# Altium integrated library Lattice FPGA XP.IntLib: 280 symbols (part 30 of 55)
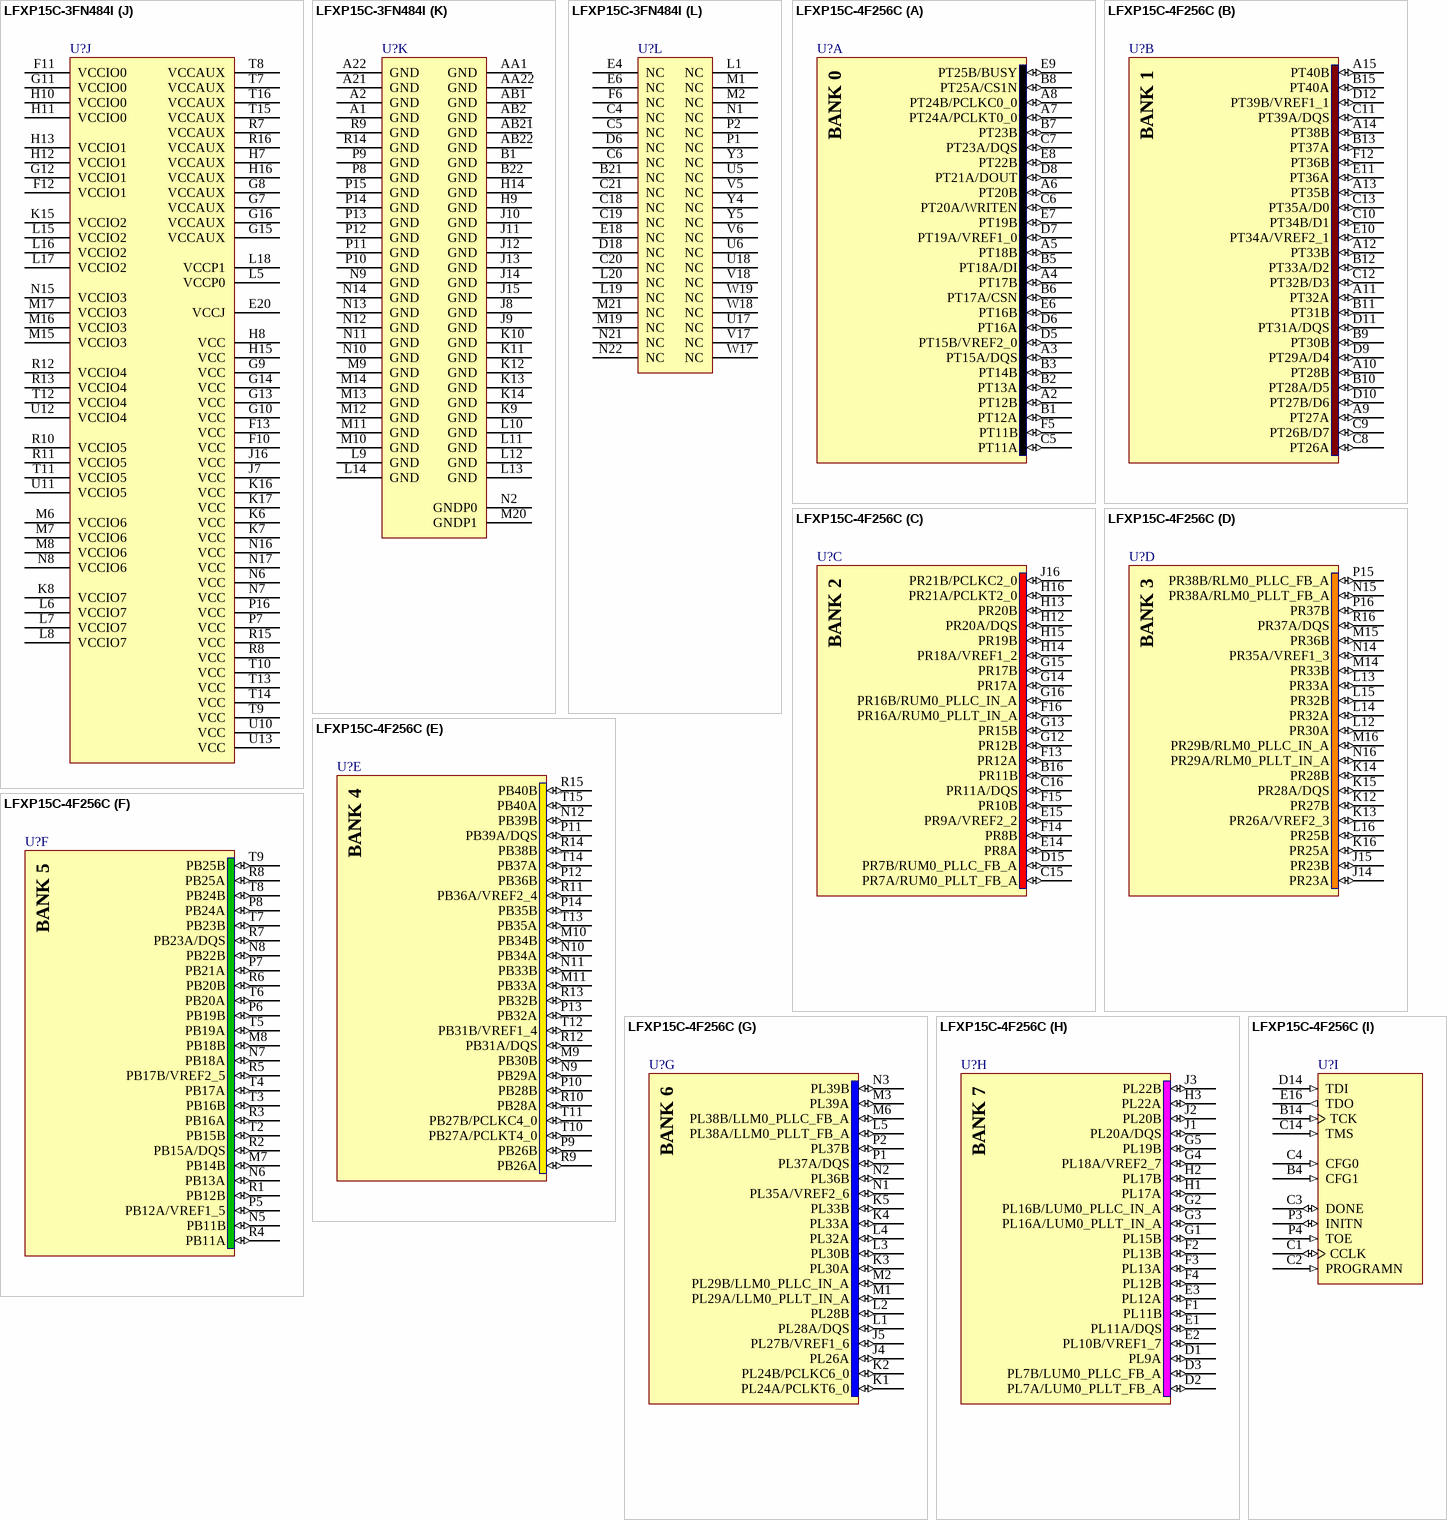
[diagram p367: symbols LFXP15C-3FN484I to LFXP15C-4F256C]

## LFXP15C-3FN484I
designator U?
XP 1.8/2.5/3.3V FPGA, 300 I/Os, 15K LUTs, 484-Pin fpBGA, Speed Grade 3, Industrial Grade, Pb-Free; DatasheetVersion: ver05.1, Nov-2007; PackageVersion: ver02.8, Jul-2011; PackageReference: fpBGA484; PackageDescription: 484-Ball Fine Pitch Ball Grid Array (fpBGA484); Code_IPC: BGA100P22X22-484; ComponentLink1Description: Manufacturer URL; ComponentLink1URL: http://www.latticesemi.com/; ComponentLink2Description: Datasheet; ComponentLink2URL: http://www.latticesemi.com/lit/docs/datasheets/fpga/DS1001.pdf; ComponentLink3Description: Package Specification; ComponentLink3URL: http://www.latticesemi.com/lit/docs/package/pkg.pdf
footprint fpBGA484 (BGA, 484-Leads, Body 23x23mm, Pitch 1mm)
part A pins: A3 PT8A (io), A4 PT10A (io), A5 PT12A (io), A6 PT15A/DQS (io), A7 PT17A/CSN (io), A8 PT20A/WRITEN (io), A9 PT21A/DOUT (io), A10 PT25A/CS1N (io), A11 PT25B/BUSY (io), B2 PT6B (io), B3 PT8B (io), B4 PT10B (io), B5 PT12B (io), B6 PT15B/VREF2_0 (io), B7 PT17B (io), B8 PT20B (io), B9 PT22B (io), B10 PT18A/DI (io), B11 PT23B (io), C2 PT5A (io), C3 PT4B (io), C7 PT7A/DQS (io), C8 PT11B (io), C9 PT16B (io), C10 PT18B (io), C11 PT23A/DQS (io), D3 PT4A (io), D7 PT7B (io), D8 PT11A (io), D9 PT16A (io), D10 PT19A/VREF1_0 (io), D11 PT24B/PCLKC0_0 (io), E7 PT3A (io), E8 PT9A (io), E9 PT13A (io), E10 PT19B (io), E11 PT24A/PCLKT0_0 (io), F7 PT3B (io), F8 PT9B (io), F9 PT14B (io)
part B pins: A12 PT26A (io), A13 PT26B/D7 (io), A14 PT30B (io), A15 PT33B (io), A16 PT34B/D1 (io), A17 PT38B (io), A18 PT40B (io), A19 PT42B (io), A20 PT43B (io), B12 PT28A/D5 (io), B13 PT31A/DQS (io), B14 PT29A/D4 (io), B15 PT33A/D2 (io), B16 PT34A/VREF2_1 (io), B17 PT37A (io), B18 PT40A (io), B19 PT42A (io), B20 PT43A (io), C12 PT28B (io), C13 PT31B (io), C14 PT35A/D0 (io), C15 PT41B (io), C16 PT44B (io), C17 PT47B (io), D12 PT27B/D6 (io), D13 PT32A (io), D14 PT35B (io), D15 PT41A (io), D16 PT44A (io), D17 PT47A/DQS (io), E12 PT27A (io), E13 PT32B/D3 (io), E14 PT36B (io), E15 PT39A/DQS (io), E16 PT48A (io), E17 PT48B (io), F14 PT36A (io), F15 PT39B/VREF1_1 (io), F16 PT45A (io), F17 PT46B (io)
part C pins: C22 PR2B (io), D21 PR6B (io), D22 PR6A (io), E21 PR7B/RUM0_PLLC_FB_A (io), E22 PR7A/RUM0_PLLT_FB_A (io), F18 PR3B (io), F19 PR3A (io), F21 PR11B (io), F22 PR11A/DQS (io), G17 PR4B (io), G18 PR4A (io), G19 PR5A (io), G20 PR5B (io), G21 PR12B (io), G22 PR12A (io), H17 PR8B (io), H18 PR8A (io), H19 PR9A/VREF2_2 (io), H20 PR10B (io), H21 PR16B/RUM0_PLLC_IN_A (io), H22 PR16A/RUM0_PLLT_IN_A (io), J17 PR13B (io), J18 PR13A (io), J19 PR15A (io), J20 PR15B (io), J21 PR20B (io), J22 PR20A/DQS (io), K18 PR19B (io), K19 PR18A/VREF1_2 (io), K20 PR17A (io), K21 PR17B (io), K22 PR21A/PCLKT2_0 (io), L21 PR21B/PCLKC2_0 (io), L22 PR22A (io), M22 PR22B (io)
part D pins: M18 PR24A (io), N18 PR24B (io), N19 PR25B (io), N20 PR25A (io), P17 PR34B (io), P18 PR34A (io), P19 PR29B/RLM0_PLLC_IN_A (io), P20 PR29A/RLM0_PLLT_IN_A (io), P21 PR23A (io), P22 PR23B (io), R17 PR38A/RLM0_PLLT_FB_A (io), R18 PR38B/RLM0_PLLC_FB_A (io), R19 PR33B (io), R20 PR33A (io), R21 PR26A/VREF2_3 (io), R22 PR27B (io), T17 PR40B (io), T18 PR40A (io), T19 PR39B (io), T20 PR39A (io), T21 PR28A/DQS (io), T22 PR28B (io), U19 PR42A (io), U20 PR42B (io), U21 PR30A (io), U22 PR30B (io), V19 PR43A (io), V20 PR41B (io), V21 PR32A (io), V22 PR32B (io), W20 PR41A (io), W21 PR35A/VREF1_3 (io), W22 PR36B (io), Y21 PR37A/DQS (io), Y22 PR37B (io)
part E pins: AA12 PB26B (io), AA13 PB29A (io), AA14 PB33A (io), AA15 PB33B (io), AA16 PB41A (io), AA17 PB41B (io), AA18 PB42A (io), AA19 PB42B (io), AA20 PB44A (io), AA21 PB44B (io), AB13 PB28A (io), AB14 PB28B (io), AB15 PB31A/DQS (io), AB16 PB31B/VREF1_4 (io), AB17 PB34A (io), AB18 PB34B (io), AB19 PB37A (io), AB20 PB38B (io), U14 PB36A/VREF2_4 (io), U15 PB39B (io), U16 PB48B (io), V12 PB27B/PCLKC4_0 (io), V13 PB32A (io), V14 PB36B (io), V15 PB39A/DQS (io), V16 PB48A (io), W12 PB27A/PCLKT4_0 (io), W13 PB32B (io), W14 PB35A (io), W15 PB40B (io), W16 PB43B (io), Y12 PB26A (io), Y13 PB30B (io), Y14 PB35B (io), Y15 PB40A (io), Y16 PB43A (io), Y17 PB45A (io), Y18 PB46B (io), Y19 PB47A/DQS (io), Y20 PB47B (io)
part F pins: AA2 PB4A (io), AA3 PB4B (io), AA4 PB8A (io), AA5 PB8B (io), AA6 PB10A (io), AA7 PB10B (io), AA8 PB17A (io), AA9 PB17B/VREF2_5 (io), AA10 PB22B (io), AA11 PB24B (io), AB3 PB9A (io), AB4 PB9B (io), AB5 PB16A (io), AB6 PB16B (io), AB7 PB19A (io), AB8 PB19B (io), AB9 PB20A (io), AB10 PB20B (io), AB11 PB25A (io), AB12 PB25B (io), U7 PB6B (io), U8 PB11A (io), U9 PB14B (io), V7 PB5A (io), V8 PB11B (io), V9 PB13A (io), V10 PB18B (io), V11 PB23B (io), W6 PB3A (io), W7 PB7B (io), W8 PB12B (io), W9 PB15B (io), W10 PB18A (io), W11 PB23A/DQS (io), Y6 PB3B (io), Y7 PB7A/DQS (io), Y8 PB12A/VREF1_5 (io), Y9 PB15A/DQS (io), Y10 PB21A (io), Y11 PB24A (io)
part G pins: M3 PL23B (io), M4 PL23A (io), M5 PL26A (io), N3 PL25A (io), N4 PL25B (io), N5 PL27B/VREF1_6 (io), P3 PL30A (io), P4 PL30B (io), P5 PL32B (io), P6 PL32A (io), R1 PL24B/PCLKC6_0 (io), R2 PL24A/PCLKT6_0 (io), R3 PL35A/VREF2_6 (io), R4 PL36B (io), R5 PL37B (io), R6 PL37A/DQS (io), T1 PL28B (io), T2 PL28A/DQS (io), T3 PL39A (io), T4 PL39B (io), T5 PL41B (io), T6 PL41A (io), U1 PL29B/LLM0_PLLC_IN_A (io), U2 PL29A/LLM0_PLLT_IN_A (io), U3 PL42A (io), U4 PL42B (io), V1 PL33B (io), V2 PL33A (io), V3 PL40B (io), V4 PL43A (io), W1 PL34B (io), W2 PL34A (io), W3 PL40A (io), Y1 PL38B/LLM0_PLLC_FB_A (io), Y2 PL38A/LLM0_PLLT_FB_A (io)
part H pins: C1 PL2B (io), D1 PL6A (io), D2 PL6B (io), E1 PL7A/LUM0_PLLT_FB_A (io), E2 PL7B/LUM0_PLLC_FB_A (io), F1 PL11A/DQS (io), F2 PL11B (io), F3 PL4B (io), F4 PL4A (io), G1 PL13A (io), G2 PL13B (io), G3 PL5B (io), G4 PL5A (io), G5 PL3A (io), G6 PL3B (io), H1 PL16A/LUM0_PLLT_IN_A (io), H2 PL16B/LUM0_PLLC_IN_A (io), H3 PL10B/VREF1_7 (io), H4 PL9A (io), H5 PL8A (io), H6 PL8B (io), J1 PL17A (io), J2 PL17B (io), J3 PL15B (io), J4 PL15A (io), J5 PL12A (io), J6 PL12B (io), K1 PL21A (io), K2 PL19B (io), K3 PL18A/VREF2_7 (io), K4 PL20A/DQS (io), K5 PL20B (io), L2 PL21B (io), L3 PL22B (io), L4 PL22A (io)
part I pins: D4 CFG1 (in), D5 DONE (io), D19 TDI (in), D20 TCK (in), E3 CCLK (io), E5 CFG0 (in), E19 TMS (in), F5 PROGRAMN (in), F20 TDO (out), W4 SLEEPN (in), W5 INITN (io)
part J pins: E20 VCCJ (power), F10 VCC (power), F11 VCCIO0 (power), F12 VCCIO1 (power), F13 VCC (power), G7 VCCAUX (power), G8 VCCAUX (power), G9 VCC (power), G10 VCC (power), G11 VCCIO0 (power), G12 VCCIO1 (power), G13 VCC (power), G14 VCC (power), G15 VCCAUX (power), G16 VCCAUX (power), H7 VCCAUX (power), H8 VCC (power), H10 VCCIO0 (power), H11 VCCIO0 (power), H12 VCCIO1 (power), H13 VCCIO1 (power), H15 VCC (power), H16 VCCAUX (power), J7 VCC (power), J16 VCC (power), K6 VCC (power), K7 VCC (power), K8 VCCIO7 (power), K15 VCCIO2 (power), K16 VCC (power), K17 VCC (power), L5 VCCP0 (power), L6 VCCIO7 (power), L7 VCCIO7 (power), L8 VCCIO7 (power), L15 VCCIO2 (power), L16 VCCIO2 (power), L17 VCCIO2 (power), L18 VCCP1 (power), M6 VCCIO6 (power), M7 VCCIO6 (power), M8 VCCIO6 (power), M15 VCCIO3 (power), M16 VCCIO3 (power), M17 VCCIO3 (power), N6 VCC (power), N7 VCC (power), N8 VCCIO6 (power), N15 VCCIO3 (power), N16 VCC (power), N17 VCC (power), P7 VCC (power), P16 VCC (power), R7 VCCAUX (power), R8 VCC (power), R10 VCCIO5 (power), R11 VCCIO5 (power), R12 VCCIO4 (power), R13 VCCIO4 (power), R15 VCC (power), R16 VCCAUX (power), T7 VCCAUX (power), T8 VCCAUX (power), T9 VCC (power), T10 VCC (power), T11 VCCIO5 (power), T12 VCCIO4 (power), T13 VCC (power), T14 VCC (power), T15 VCCAUX (power), T16 VCCAUX (power), U10 VCC (power), U11 VCCIO5 (power), U12 VCCIO4 (power), U13 VCC (power)
part K pins: A1 GND (power), A2 GND (power), A21 GND (power), A22 GND (power), AA1 GND (power), AA22 GND (power), AB1 GND (power), AB2 GND (power), AB21 GND (power), AB22 GND (power), B1 GND (power), B22 GND (power), H9 GND (power), H14 GND (power), J8 GND (power), J9 GND (power), J10 GND (power), J11 GND (power), J12 GND (power), J13 GND (power), J14 GND (power), J15 GND (power), K9 GND (power), K10 GND (power), K11 GND (power), K12 GND (power), K13 GND (power), K14 GND (power), L9 GND (power), L10 GND (power), L11 GND (power), L12 GND (power), L13 GND (power), L14 GND (power), M9 GND (power), M10 GND (power), M11 GND (power), M12 GND (power), M13 GND (power), M14 GND (power), M20 GNDP1 (power), N2 GNDP0 (power), N9 GND (power), N10 GND (power), N11 GND (power), N12 GND (power), N13 GND (power), N14 GND (power), P8 GND (power), P9 GND (power), P10 GND (power), P11 GND (power), P12 GND (power), P13 GND (power), P14 GND (power), P15 GND (power), R9 GND (power), R14 GND (power)
part L pins: B21 NC, C4 NC, C5 NC, C6 NC, C18 NC, C19 NC, C20 NC, C21 NC, D6 NC, D18 NC, E4 NC, E6 NC, E18 NC, F6 NC, L1 NC, L19 NC, L20 NC, M1 NC, M2 NC, M19 NC, M21 NC, N1 NC, N21 NC, N22 NC, P1 NC, P2 NC, U5 NC, U6 NC, U17 NC, U18 NC, V5 NC, V6 NC, V17 NC, V18 NC, W17 NC, W18 NC, W19 NC, Y3 NC, Y4 NC, Y5 NC
part A text: BANK 0
part B text: BANK 1
part C text: BANK 2
part D text: BANK 3
part E text: BANK 4
part F text: BANK 5
part G text: BANK 6
part H text: BANK 7

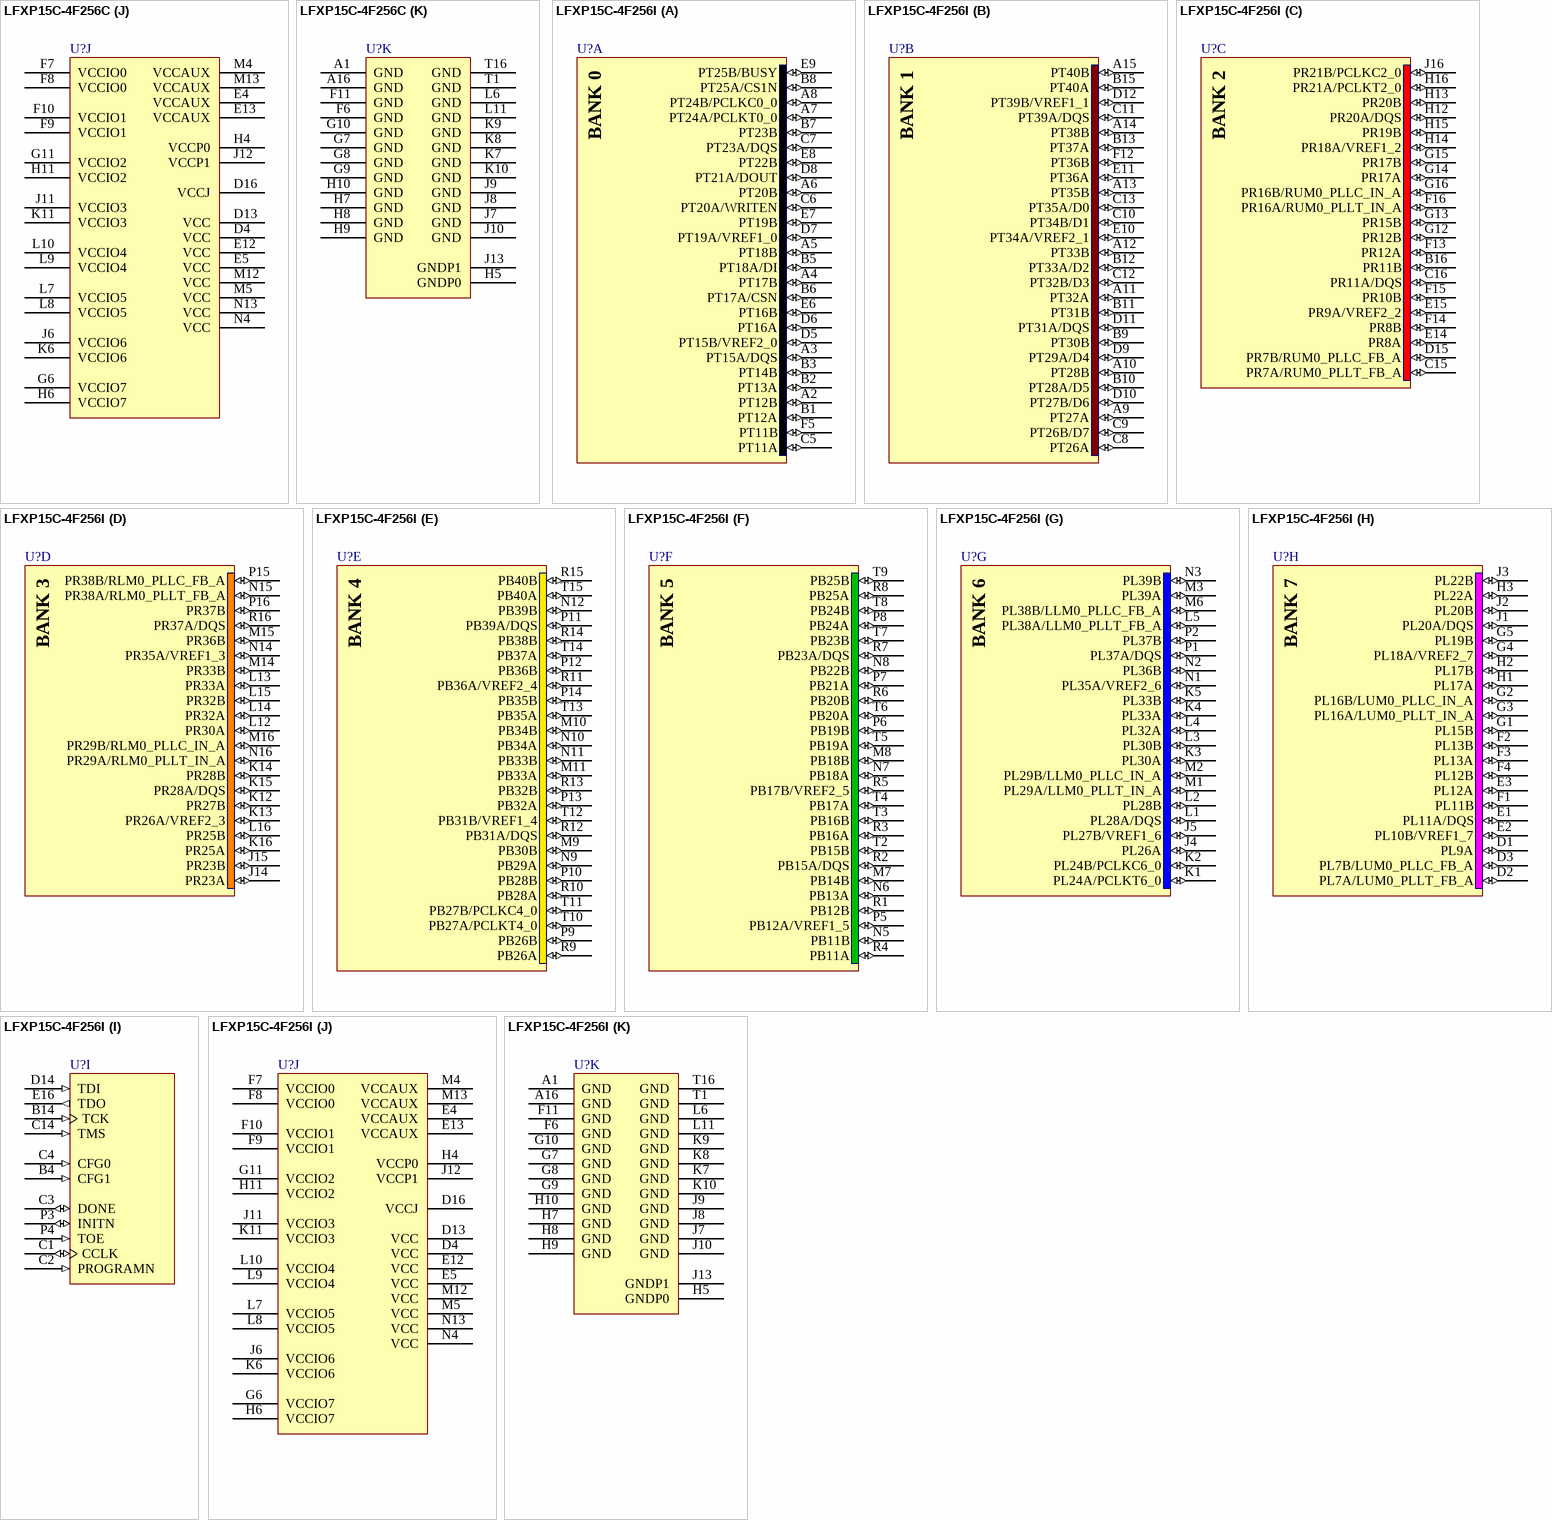
[diagram p125: symbols LFXP15C-4F256C to LFXP15C-4F256I]